# Altium footprint library 19_2_Coupled_PP0.PcbLib: 9 footprints
Each footprint in its own frame and in the unit in brackets; x right, y up, seen from the top. Pads: shape width x height; smd on the part's side, far side on the other; paste and mask are expansions set on the pad; w line width, h text height; cw(c..) or ccw(c..) is an arc to the next point about the centre after c.
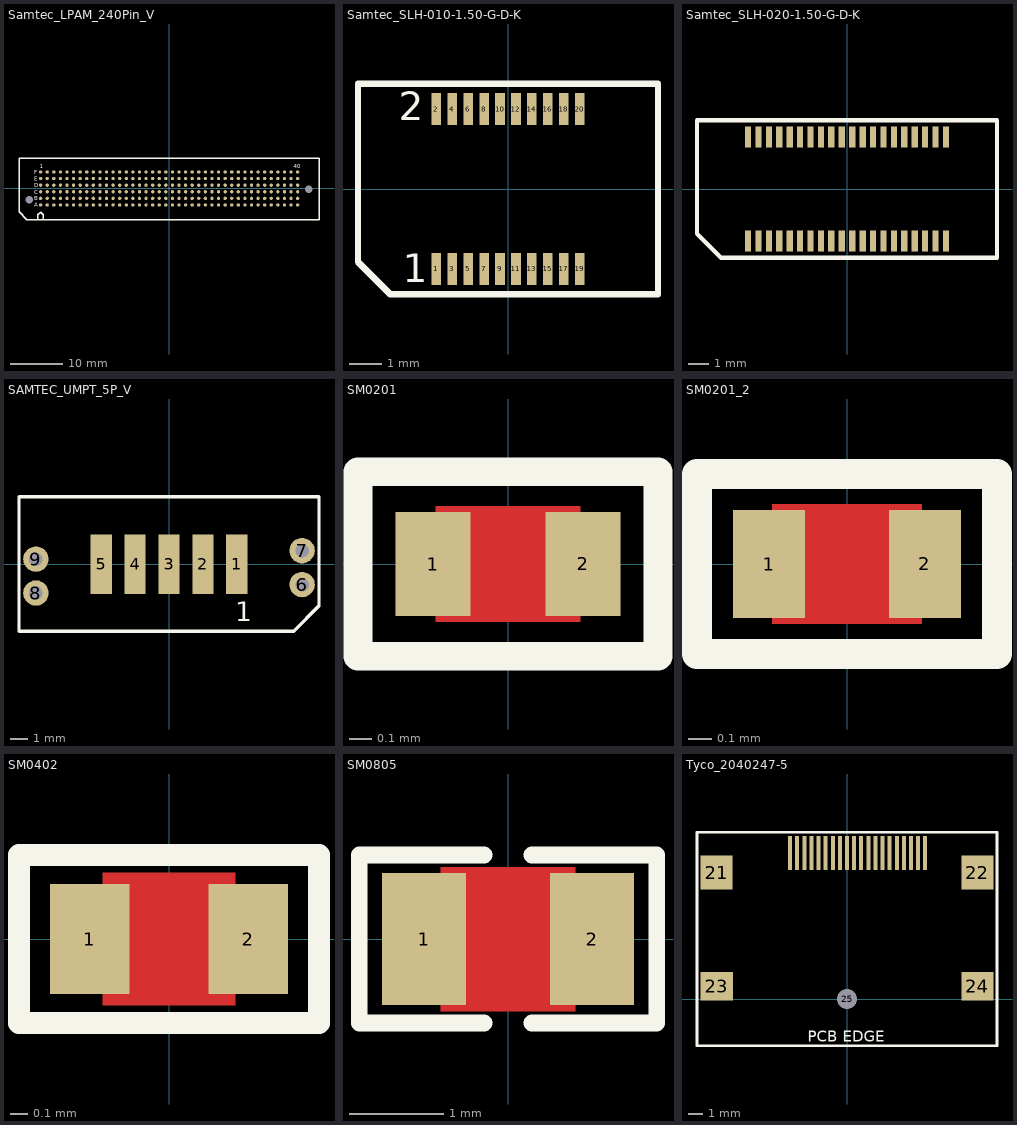
[diagram p0: the footprints below, top view; thin cyan lines are the x and y axes]

## Samtec_LPAM_240Pin_V [mil]
pads (242):
  round 25 smd paste+5 mask+2: A1(-975,-125) A2(-925,-125) A3(-875,-125) A4(-825,-125) A5(-775,-125) A6(-725,-125) A7(-675,-125) A8(-625,-125) A9(-575,-125) A10(-525,-125) A11(-475,-125) A12(-425,-125) A13(-375,-125) A14(-325,-125) A15(-275,-125) A16(-225,-125) A17(-175,-125) A18(-125,-125) A19(-75,-125) A20(-25,-125) A21(25,-125) A22(75,-125) A23(125,-125) A24(175,-125) A25(225,-125) A26(275,-125) A27(325,-125) A28(375,-125) A29(425,-125) A30(475,-125) A31(525,-125) A32(575,-125) A33(625,-125) A34(675,-125) A35(725,-125) A36(775,-125) A37(825,-125) A38(875,-125) A39(925,-125) A40(975,-125) B1(-975,-75) B2(-925,-75) B3(-875,-75) B4(-825,-75) B5(-775,-75) B6(-725,-75) B7(-675,-75) B8(-625,-75) B9(-575,-75) B10(-525,-75) B11(-475,-75) B12(-425,-75) B13(-375,-75) B14(-325,-75) B15(-275,-75) B16(-225,-75) B17(-175,-75) B18(-125,-75) B19(-75,-75) B20(-25,-75) B21(25,-75) B22(75,-75) B23(125,-75) B24(175,-75) B25(225,-75) B26(275,-75) B27(325,-75) B28(375,-75) B29(425,-75) B30(475,-75) B31(525,-75) B32(575,-75) B33(625,-75) B34(675,-75) B35(725,-75) B36(775,-75) B37(825,-75) B38(875,-75) B39(925,-75) B40(975,-75) C1(-975,-25) C2(-925,-25) C3(-875,-25) C4(-825,-25) C5(-775,-25) C6(-725,-25) C7(-675,-25) C8(-625,-25) C9(-575,-25) C10(-525,-25) C11(-475,-25) C12(-425,-25) C13(-375,-25) C14(-325,-25) C15(-275,-25) C16(-225,-25) C17(-175,-25) C18(-125,-25) C19(-75,-25) C20(-25,-25) C21(25,-25) C22(75,-25) C23(125,-25) C24(175,-25) C25(225,-25) C26(275,-25) C27(325,-25) C28(375,-25) C29(425,-25) C30(475,-25) C31(525,-25) C32(575,-25) C33(625,-25) C34(675,-25) C35(725,-25) C36(775,-25) C37(825,-25) C38(875,-25) C39(925,-25) C40(975,-25) D1(-975,25) D2(-925,25) D3(-875,25) D4(-825,25) D5(-775,25) D6(-725,25) D7(-675,25) D8(-625,25) D9(-575,25) D10(-525,25) D11(-475,25) D12(-425,25) D13(-375,25) D14(-325,25) D15(-275,25) D16(-225,25) D17(-175,25) D18(-125,25) D19(-75,25) D20(-25,25) D21(25,25) D22(75,25) D23(125,25) D24(175,25) D25(225,25) D26(275,25) D27(325,25) D28(375,25) D29(425,25) D30(475,25) D31(525,25) D32(575,25) D33(625,25) D34(675,25) D35(725,25) D36(775,25) D37(825,25) D38(875,25) D39(925,25) D40(975,25) E1(-975,75) E2(-925,75) E3(-875,75) E4(-825,75) E5(-775,75) E6(-725,75) E7(-675,75) E8(-625,75) E9(-575,75) E10(-525,75) E11(-475,75) E12(-425,75) E13(-375,75) E14(-325,75) E15(-275,75) E16(-225,75) E17(-175,75) E18(-125,75) E19(-75,75) E20(-25,75) E21(25,75) E22(75,75) E23(125,75) E24(175,75) E25(225,75) E26(275,75) E27(325,75) E28(375,75) E29(425,75) E30(475,75) E31(525,75) E32(575,75) E33(625,75) E34(675,75) E35(725,75) E36(775,75) E37(825,75) E38(875,75) E39(925,75) E40(975,75) F1(-975,125) F2(-925,125) F3(-875,125) F4(-825,125) F5(-775,125) F6(-725,125) F7(-675,125) F8(-625,125) F9(-575,125) F10(-525,125) F11(-475,125) F12(-425,125) F13(-375,125) F14(-325,125) F15(-275,125) F16(-225,125) F17(-175,125) F18(-125,125) F19(-75,125) F20(-25,125) F21(25,125) F22(75,125) F23(125,125) F24(175,125) F25(225,125) F26(275,125) F27(325,125) F28(375,125) F29(425,125) F30(475,125) F31(525,125) F32(575,125) F33(625,125) F34(675,125) F35(725,125) F36(775,125) F37(825,125) F38(875,125) F39(925,125) F40(975,125)
  round 0 hole 57 unplated: MH1(-1061,-85) MH2(1061,-5)
Top Overlay:
  lines w10: -995,-234 -995,-199 -975,-179 -956,-198 -956,-233 ; -1139,-178 -1139,230 1137,230 1137,-238 -1079,-238 -1139,-178
  text "1" at -980,155 h30
  text "A" at -1022,-139 h30
  text "C" at -1022,-42 h30
  text "B" at -1022,-91 h30
  text "D" at -1022,9 h30
  text "40" at 945,155 h30
  text "E" at -1022,60 h30
  text "F" at -1022,109 h30
Mechanical 15:
  lines w3: -3.99,0 4.01,0 ; 0,-4 0,4
  text ".Designator" at 1044,-125 h25
3D body "LPAM-40-01.0-L-06-1-K-TR.stp": height 157, standoff -43, extent -1134,-234 1132,226

## Samtec_SLH-010-1.50-G-D-K [mm] "Samtec_40 pin SMT connector"
pads (20):
  rect 0.3x1 smd: 1(-2.25,-2.5) 2(-2.25,2.5) 3(-1.75,-2.5) 4(-1.75,2.5) 5(-1.25,-2.5) 6(-1.25,2.5) 7(-0.75,-2.5) 8(-0.75,2.5) 9(-0.25,-2.5) 10(-0.25,2.5) 11(0.25,-2.5) 12(0.25,2.5) 13(0.75,-2.5) 14(0.75,2.5) 15(1.25,-2.5) 16(1.25,2.5) 17(1.75,-2.5) 18(1.75,2.5) 19(2.25,-2.5) 20(2.25,2.5)
Top Overlay:
  lines w0.203: -4.7,-2.285 -4.7,-1 -4.7,3.302 4.699,3.302 4.699,-3.302 -3.683,-3.302 -4.7,-2.285
  text "1" at -3.302,-2.921 h0.89
  text "2" at -3.429,2.159 h0.89
Mechanical 15:
  text ".Designator" at -0.75,-0.7 h0.89
3D body "SLH-010-1.50-G-D-K.stp": height 1.98, standoff 0.02, extent -4.528,-2.5 4.532,2.5

## Samtec_SLH-020-1.50-G-D-K [mm] "Samtec_40 pin SMT connector"
pads (40):
  rect 0.3x1 smd: 1(-4.75,-2.5) 2(-4.75,2.5) 3(-4.25,-2.5) 4(-4.25,2.5) 5(-3.75,-2.5) 6(-3.75,2.5) 7(-3.25,-2.5) 8(-3.25,2.5) 9(-2.75,-2.5) 10(-2.75,2.5) 11(-2.25,-2.5) 12(-2.25,2.5) 13(-1.75,-2.5) 14(-1.75,2.5) 15(-1.25,-2.5) 16(-1.25,2.5) 17(-0.75,-2.5) 18(-0.75,2.5) 19(-0.25,-2.5) 20(-0.25,2.5) 21(0.25,-2.5) 22(0.25,2.5) 23(0.75,-2.5) 24(0.75,2.5) 25(1.25,-2.5) 26(1.25,2.5) 27(1.75,-2.5) 28(1.75,2.5) 29(2.25,-2.5) 30(2.25,2.5) 31(2.75,-2.5) 32(2.75,2.5) 33(3.25,-2.5) 34(3.25,2.5) 35(3.75,-2.5) 36(3.75,2.5) 37(4.25,-2.5) 38(4.25,2.5) 39(4.75,-2.5) 40(4.75,2.5)
Top Overlay:
  lines w0.203: -7.2,-2.15 -7.2,-1 -7.2,3.3 7.2,3.3 7.2,-3.3 -6.05,-3.3 -7.2,-2.15
Mechanical 15:
  text ".Designator" at -2.011,-0.561 h0.89
3D body "SLH-020-1.50-G-D-K.stp": height 1.98, standoff 0.02, extent -7.03,-2.5 7.03,2.5

## SAMTEC_UMPT_5P_V [mm]
pads (9):
  rect 1.25x3.5 smd: 1(4,0) 2(2,0) 3(0,0) 4(-2,0) 5(-4,0)
  round 1.5 hole 0.8: 6(7.85,-1.2) 7(7.85,0.8) 8(-7.85,-1.7) 9(-7.85,0.3)
Top Overlay:
  lines w0.203: -8.85,-3.95 7.35,-3.95 8.85,-2.45 8.85,3.975 -8.85,3.975 -8.85,-3.95
  text "1" at 3.9,-3.375 h1.14
Mechanical 15:
  text ".Designator" at 5.411,0.901 h0.64
3D body "UMPT-05-01.5-T-VT-SM.stp": height 4.9, standoff 0.05, extent -8.65,-3.8 8.65,3.8

## SM0201 [mil]
pads (2):
  rect 13x18 smd: 1(-13,0) 2(13,0.01)
Top Layer:
  pour cut-out: -12.5,10 -12.5,-10 12.5,-10 12.5,10
Top Overlay:
  lines w5: -26,-16 26,-16 26,16 -26,16 -26,-16
Mechanical 15:
  text ".Designator" at -35.2,-16 h30
3D body "User Library-RES_0603-0201.step": height 13.19, standoff 0, extent -12.38,-7.49 14.39,5.5

## SM0201_2 [mil]
pads (2):
  rect 12x18 smd: 1(-13,0) 2(13,0.01)
Top Layer:
  pour cut-out: -12.5,10 -12.5,-10 12.5,-10 12.5,10
Top Overlay:
  lines w5: -25,-15 25,-15 25,15 -25,15 -25,-15
Mechanical 15:
  text ".Designator" at 12.5,10 h25
3D body "User Library-RES_0603-0201.step": height 13.19, standoff 0, extent -13.38,-6.49 13.39,6.5

## SM0402 [mil]
height 47.24
pads (2):
  rect 18x25 smd: 1(-18,0) 2(18,0)
Top Layer:
  pour cut-out: -15,15 -15,-15 15,-15 15,15
Top Overlay:
  lines w5: -34,-19 -34,19 34,19 34,-19 -34,-19
Mechanical 15:
  text ".Designator" at -26.79,-15 h30
3D body "User Library-0402 SMD Capacitor.step": height 7.95, standoff 0, extent -18.69,-11.81 20.68,11.81

## SM0805 [mil]
height 47.24
pads (2):
  rect 35x55 smd: 1(-35,0) 2(35,0)
Top Layer:
  pour cut-out: -28,30 -28,-30 28,-30 28,30
Top Overlay:
  lines w7: -10,-35 -62,-35 -62,35 -10,35 ; 10,-35 62,-35 62,35 10,35
Mechanical 15:
  text ".Designator" at -130,-15 h35
3D body "User Library-0805 SMD Capacitor.step": height 30.79, standoff 0, extent -39.37,-24.21 39.37,25

## Tyco_2040247-5 [mm]
pads (25):
  rect 0.28x2.4 smd: 1(5.5,10.28) 2(5,10.28) 3(4.5,10.28) 4(4,10.28) 5(3.5,10.28) 6(3,10.28) 7(2.5,10.28) 8(2,10.28) 9(1.5,10.28) 10(1,10.28) 11(0.5,10.28) 12(0,10.28) 13(-0.5,10.28) 14(-1,10.28) 15(-1.5,10.28) 16(-2,10.28) 17(-2.5,10.28) 18(-3,10.28) 19(-3.5,10.28) 20(-4,10.28)
  rect 2.25x2.4 smd: 21(-9.17,8.89) 22(9.17,8.89)
  rect 2.28x2 smd: 23(-9.17,0.9)
  rect 2.25x2 smd: 24(9.17,0.9)
  round 1 hole 1.4 unplated: 25(0,0)
Top Overlay:
  lines w0.178: -10.55,-3.28 10.55,-3.28 10.55,11.725 -10.55,11.725 -10.55,-3.275
  text "PCB EDGE" at -2.775,-3 h0.76
Mechanical 15:
  lines w0.025: -0.2,0 0.2,0 ; 0,-0.2 0,0.2
  text ".Designator" at 1.081,8.899 h0.89
3D body "472720001.stp": height 6.65, standoff -2.1, extent -8.845,-4.325 8.94,10.565